# Altium schematic symbol library LCD_SCREEN.SchLib: 1 symbol
Pins are listed as number, name and electrical type; pins without a type are passive.

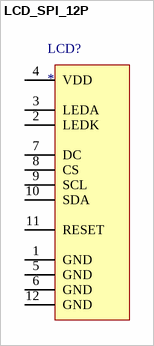
[diagram p0: symbol LCD_SPI_12P]

## LCD_SPI_12P
designator LCD?
footprint ST7789-240x280_TOP
pins: 1 GND, 2 LEDK, 3 LEDA, 4 VDD, 5 GND, 6 GND, 7 DC, 8 CS, 9 SCL, 10 SDA, 11 RESET, 12 GND